# Altium footprint library BrushlessDrive.PcbLib: 7 footprints
Each footprint in its own frame and in the unit in brackets; x right, y up, seen from the top. Pads: shape width x height; smd on the part's side, far side on the other; paste and mask are expansions set on the pad; w line width, h text height; cw(c..) or ccw(c..) is an arc to the next point about the centre after c.
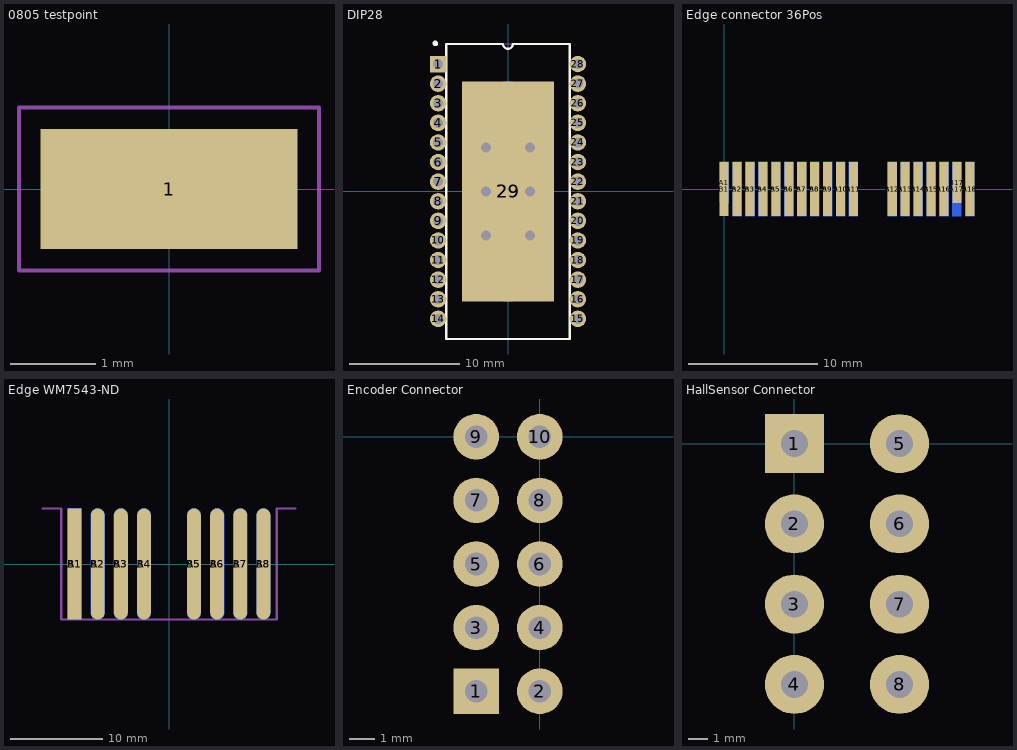
[diagram p0: the footprints below, top view; thin cyan lines are the x and y axes]

## 0805 testpoint [mm] "Chip Capacitor, 2-Leads, Body 2,00x1,25mm, IPC Medium Density"
height 0.8
pads (1):
  rect 3x1.4 smd: 1(0,0)
Top Overlay:
  lines w0.2: -0.2,-0.6 0.2,-0.6 ; -0.2,0.6 0.2,0.6
Mechanical 13:
  lines w0.1: -1,-0.625 1,-0.625 1,0.625 -1,0.625 -1,-0.625
Mechanical 15:
  lines w0.05: -1.75,-0.95 1.75,-0.95 1.75,0.95 -1.75,0.95 -1.75,-0.95
  lines w0.1: -0.5,0 0.5,0 ; 0,-0.5 0,0.5
3D body: height 0.8, standoff 0, extent 0.6,-0.625 1,0.625
3D body: height 0.8, standoff 0, extent -1,-0.625 -0.6,0.625
3D body: height 0.8, standoff 0.6, extent -0.6,-0.625 0.6,0.625

## DIP28 [mm]
pads (30):
  rect 1.5x1.5 hole 0.9: 1(-6.35,11.57)
  round 1.5 hole 0.9: 2(-6.35,9.79) 3(-6.35,8.01) 4(-6.35,6.23) 5(-6.35,4.45) 6(-6.35,2.67) 7(-6.35,0.89) 8(-6.35,-0.89) 9(-6.35,-2.67) 10(-6.35,-4.45) 11(-6.35,-6.23) 12(-6.35,-8.01) 13(-6.35,-9.79) 14(-6.35,-11.57) 15(6.35,-11.57) 16(6.35,-9.79) 17(6.35,-8.01) 18(6.35,-6.23) 19(6.35,-4.45) 20(6.35,-2.67) 21(6.35,-0.89) 22(6.35,0.89) 23(6.35,2.67) 24(6.35,4.45) 25(6.35,6.23) 26(6.35,8.01) 27(6.35,9.79) 28(6.35,11.57)
  rect 8.4x20 smd: 29(0,0)
  rrect100% 7x20 smd far side: 29(0,0)
via 2,0 diameter 1.5 hole 0.9
via -2,0 diameter 1.5 hole 0.9
via -2,4 diameter 1.5 hole 0.9
via 2,4 diameter 1.5 hole 0.9
via -2,-4 diameter 1.5 hole 0.9
via 2,-4 diameter 1.5 hole 0.9
Top Overlay:
  circle w0.25: c-6.6,13.45 r0.125
  lines w0.2: 0.44,13.4 cw(c-0.005,13.4) -0.45,13.4 -5.6,13.4 -5.6,-13.4 5.6,-13.4 5.6,13.4 0.45,13.4
Mechanical 13:
  lines w0.1: -5.625,-13.375 5.6,-13.375 5.6,13.4 -5.625,13.4 -5.625,-13.375
Mechanical 15:
  lines w0.1: -0.5,0 0.5,0 ; 0,-0.5 0,0.5
3D body: height 4, standoff 0.15, extent -5.525,-13.4 5.625,13.4

## Edge connector 36Pos [mm] "PCI Express 36Pos 1MM gold"
pads (36):
  rect 0.7x3.2 smd far side: A1(0,0.5)
  rect 0.7x4.2 smd far side: A2(1,0) A3(2,0) A4(3,0) A5(4,0) A6(5,0) A7(6,0) A8(7,0) A9(8,0) A10(9,0) A11(10,0) A12(13,0) A13(14,0) A14(15,0) A15(16,0) A16(17,0) A17(18,0) A18(19,0)
  rect 0.7x4.2 smd: B1(0,0) B2(1,0) B3(2,0) B4(3,0) B5(4,0) B6(5,0) B7(6,0) B8(7,0) B9(8,0) B10(9,0) B11(10,0) B12(13,0) B13(14,0) B14(15,0) B15(16,0) B16(17,0) B18(19,0)
  rect 0.7x3.2 smd: B17(18,0.5)

## Edge WM7543-ND [mm]
pads (16):
  rect 1.5x12 smd: A1(-10.2,0)
  oval 1.5x12 smd: A2(-7.7,0) A3(-5.2,0) A4(-2.7,0) A5(2.7,0) A6(5.2,0) A7(7.7,0) A8(10.2,0)
  rect 1.5x12 smd far side: B1(-10.2,0)
  oval 1.5x12 smd far side: B2(-7.7,0) B3(-5.2,0) B4(-2.7,0) B5(2.7,0) B6(5.2,0) B7(7.7,0) B8(10.2,0)
Mechanical 1:
  lines w0.254: -13.65,6 -11.65,6 -11.65,-6 11.65,-6 11.65,6 13.65,6

## Encoder Connector [mm]
pads (10):
  rect 1.82x1.82 hole 0.9: 1(-2.54,-10.16)
  round 1.82 hole 0.9: 2(0,-10.16) 3(-2.54,-7.62) 4(0,-7.62) 5(-2.54,-5.08) 6(0,-5.08) 7(-2.54,-2.54) 8(0,-2.54) 9(-2.54,0) 10(0,0)

## HallSensor Connector [mm]
pads (8):
  rect 3.1x3.1 hole 1.4: 1(0,0)
  round 3.1 hole 1.4: 2(0,-4.2) 3(0,-8.4) 4(0,-12.6) 5(5.5,0) 6(5.5,-4.2) 7(5.5,-8.4) 8(5.5,-12.6)

## PCBComponent_1 [mm]